# EAGLE library part TAS5558 (library Texas Instruments)
8-Channel HD Compatible Audio Processor with ASRC and PWM Output
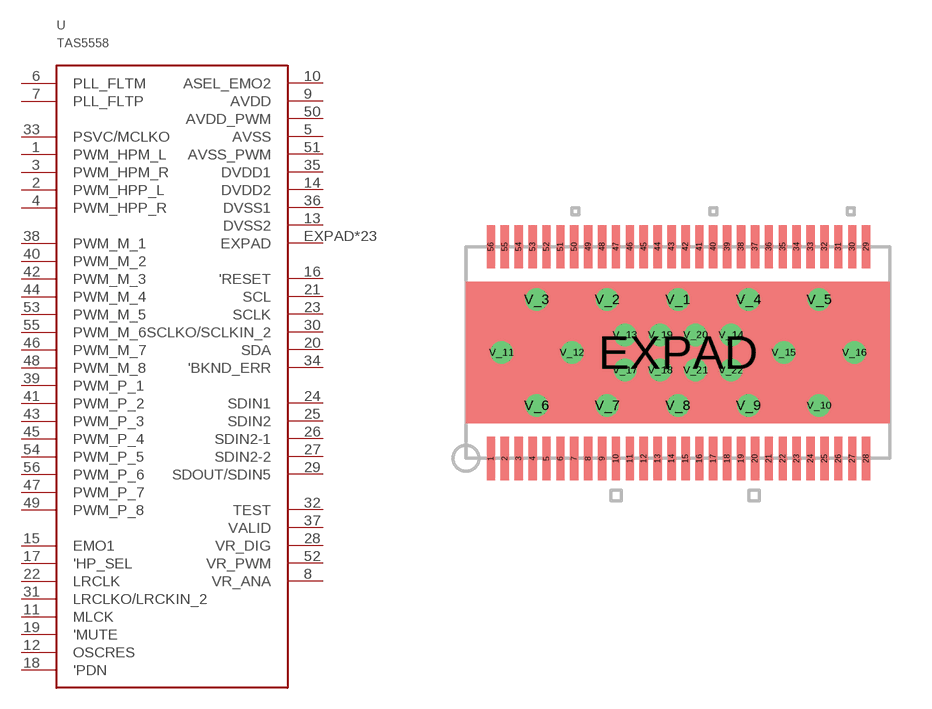
[diagram p25: symbol with the pads of DCA54; footprint DCA54]

Designator prefix U

## TAS5558  [DCA54]
1  PWM_HPM_L  out
2  PWM_HPP_L  out
3  PWM_HPM_R  out
4  PWM_HPP_R  out
5  AVSS  pwr
6  PLL_FLTM
7  PLL_FLTP
8  VR_ANA
9  AVDD  pwr
10  ASEL_EMO2
11  MLCK  in
12  OSCRES  out
13  DVSS2  pwr
14  DVDD2  pwr
15  EMO1  out
16  'RESET  in
17  'HP_SEL  in
18  'PDN  in
19  'MUTE  in
20  SDA
21  SCL  in
22  LRCLK  in
23  SCLK  in
24  SDIN1  in
25  SDIN2  in
26  SDIN2-1  in
27  SDIN2-2  in
28  VR_DIG  pwr
29  SDOUT/SDIN5
30  SCLKO/SCLKIN_2
31  LRCLKO/LRCKIN_2
32  TEST  in
33  PSVC/MCLKO  out
34  'BKND_ERR  in
35  DVDD1  pwr
36  DVSS1  pwr
37  VALID  out
38  PWM_M_1  out
39  PWM_P_1  out
40  PWM_M_2  out
41  PWM_P_2  out
42  PWM_M_3  out
43  PWM_P_3  out
44  PWM_M_4  out
45  PWM_P_4  out
46  PWM_M_7  out
47  PWM_P_7  out
48  PWM_M_8  out
49  PWM_P_8  out
50  AVDD_PWM  pwr
51  AVSS_PWM  pwr
52  VR_PWM  pwr
53  PWM_M_5  out
54  PWM_P_5  out
55  PWM_M_6  out
56  PWM_P_6  out
EXPAD  EXPAD  pwr
V_1  EXPAD  pwr
V_2  EXPAD  pwr
V_3  EXPAD  pwr
V_4  EXPAD  pwr
V_5  EXPAD  pwr
V_6  EXPAD  pwr
V_7  EXPAD  pwr
V_8  EXPAD  pwr
V_9  EXPAD  pwr
V_10  EXPAD  pwr
V_11  EXPAD  pwr
V_12  EXPAD  pwr
V_13  EXPAD  pwr
V_14  EXPAD  pwr
V_15  EXPAD  pwr
V_16  EXPAD  pwr
V_17  EXPAD  pwr
V_18  EXPAD  pwr
V_19  EXPAD  pwr
V_20  EXPAD  pwr
V_21  EXPAD  pwr
V_22  EXPAD  pwr

## Footprint DCA54 (pad centres in mm)
smd 0.3 x 1.55: 1 -6.731,-3.81; 2 -6.231,-3.81; 3 -5.731,-3.81; 4 -5.231,-3.81; 5 -4.731,-3.81; 6 -4.231,-3.81; 7 -3.731,-3.81; 8 -3.231,-3.81; 9 -2.731,-3.81; 10 -2.231,-3.81; 11 -1.731,-3.81; 12 -1.231,-3.81; 13 -0.731,-3.81; 14 -0.231,-3.81; 15 0.269,-3.81; 16 0.769,-3.81; 17 1.269,-3.81; 18 1.769,-3.81; 19 2.269,-3.81; 20 2.769,-3.81; 21 3.269,-3.81; 22 3.769,-3.81; 23 4.269,-3.81; 24 4.769,-3.81; 25 5.269,-3.81; 26 5.769,-3.81; 27 6.269,-3.81; 28 6.769,-3.81; 29 6.769,3.81; 30 6.269,3.81; 31 5.769,3.81; 32 5.269,3.81; 33 4.769,3.81; 34 4.269,3.81; 35 3.769,3.81; 36 3.269,3.81; 37 2.769,3.81; 38 2.269,3.81; 39 1.769,3.81; 40 1.269,3.81; 41 0.769,3.81; 42 0.269,3.81; 43 -0.231,3.81; 44 -0.731,3.81; 45 -1.231,3.81; 46 -1.731,3.81; 47 -2.231,3.81; 48 -2.731,3.81; 49 -3.231,3.81; 50 -3.731,3.81; 51 -4.231,3.81; 52 -4.731,3.81; 53 -5.231,3.81; 54 -5.731,3.81; 55 -6.231,3.81; 56 -6.731,3.81
smd 6 x 3: EXPAD 0,0
drill 0.3: V_1 0,1.905; V_2 -2.54,1.905; V_3 -5.08,1.905; V_4 2.54,1.905; V_5 5.08,1.905; V_6 -5.08,-1.905; V_7 -2.54,-1.905; V_8 0,-1.905; V_9 2.54,-1.905; V_10 5.08,-1.905; V_11 -6.35,0; V_12 -3.81,0; V_13 -1.905,0.635; V_14 1.905,0.635; V_15 3.81,0; V_16 6.35,0; V_17 -1.905,-0.635; V_18 -0.635,-0.635; V_19 -0.635,0.635; V_20 0.635,0.635; V_21 0.635,-0.635; V_22 1.905,-0.635